# Altium footprint library DIP-CN  0607.PcbLib: 329 footprints (part 16 of 21)
Each footprint in its own frame and in the unit in brackets; x right, y up, seen from the top. Pads: shape width x height; smd on the part's side, far side on the other; paste and mask are expansions set on the pad; w line width, h text height; cw(c..) or ccw(c..) is an arc to the next point about the centre after c.
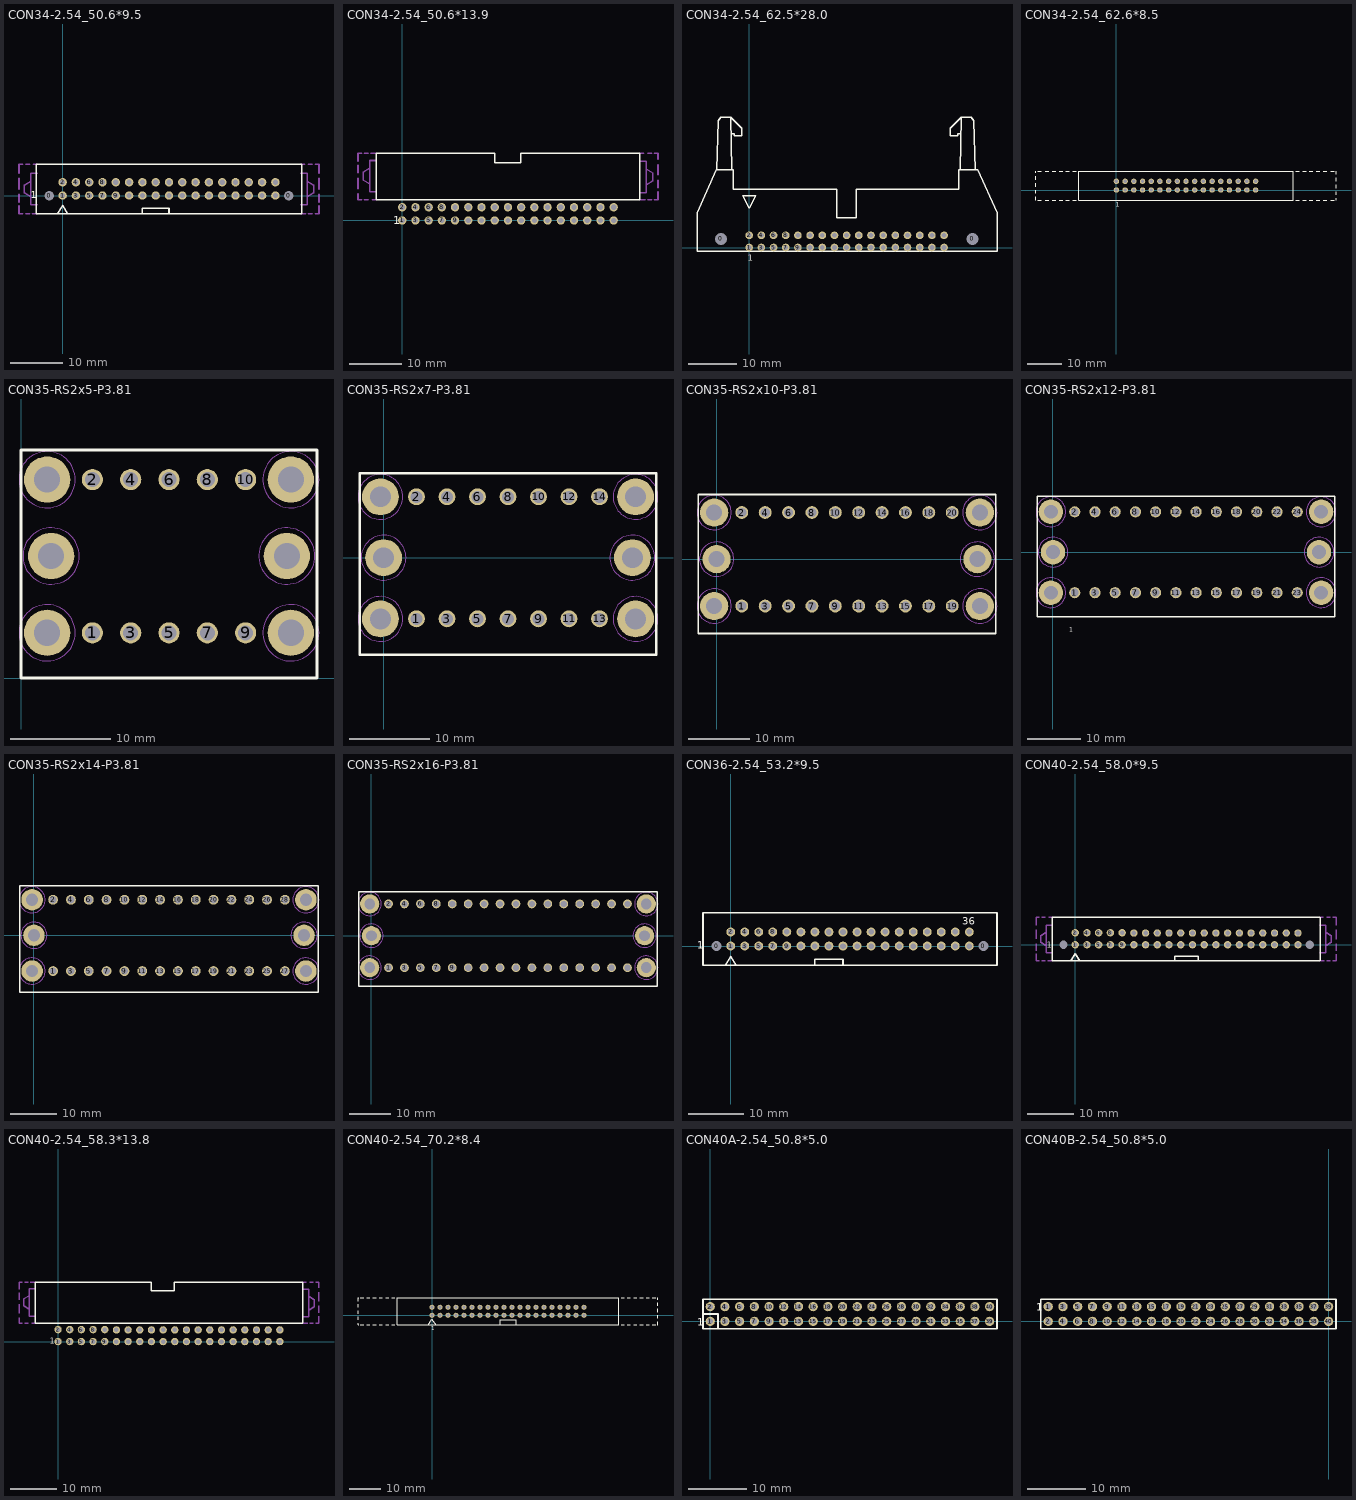
[diagram p15: the footprints below, top view; thin cyan lines are the x and y axes]

## CON34-2.54_50.6*9.5 [mm]
pads (36):
  round 1.5 hole 1.8 unplated: 0(-2.54,0) 0(43.18,0)
  round 1.6 hole 1: 1(0,0) 2(0,2.54) 3(2.54,0) 4(2.54,2.54) 5(5.08,0) 6(5.08,2.54) 7(7.62,0) 8(7.62,2.54) 9(10.16,0) 10(10.16,2.54) 11(12.7,0) 12(12.7,2.54) 13(15.24,0) 14(15.24,2.54) 15(17.779,-0.003) 16(17.779,2.537) 17(20.319,-0.003) 18(20.319,2.537) 19(22.859,-0.003) 20(22.859,2.537) 21(25.4,0) 22(25.4,2.54) 23(27.94,0) 24(27.94,2.54) 25(30.48,0) 26(30.48,2.54) 27(33.02,0) 28(33.02,2.54) 29(35.56,0) 30(35.56,2.54) 31(38.1,0) 32(38.1,2.54) 33(40.64,0) 34(40.64,2.54)
TopOverlay:
  lines w0.3: 15.2,-3.413 15.2,-2.413 20.32,-2.413 20.32,-3.413 ; -1,-3.5 0,-1.905 1,-3.5 ; -1,-3.5 1,-3.5 ; -1,-3.5 1,-3.5 ; -1,-3.5 1,-3.5 ; -5,-3.5 45.64,-3.5 45.64,6 -5,6 -5,-3.5
  text "1" at -6.096,-0.508 h1.3
BottomOverlay:
  lines w0.3: -1.016,1.27 41.656,1.27 ; 1.27,-0.829 1.27,3.616 ; 3.81,-0.829 3.81,3.616 ; 6.35,-0.829 6.35,3.616 ; 8.89,-0.829 8.89,3.616 ; 11.43,-0.829 11.43,3.616 ; 13.97,-0.829 13.97,3.616 ; 16.51,-0.829 16.51,3.616 ; 19.05,-0.829 19.05,3.616 ; 21.59,-0.889 21.59,3.556 ; 24.13,-0.829 24.13,3.616 ; 26.67,-0.889 26.67,3.556 ; 29.21,-0.889 29.21,3.556 ; 31.75,-0.889 31.75,3.556 ; 34.29,-0.889 34.29,3.556 ; 36.83,-0.889 36.83,3.556 ; 39.37,-0.889 39.37,3.556
Mechanical7:
  lines w0.3: -8.326,-2 -8.326,-3.5 -7.576,-3.5 ; -8.326,-1.25 -8.326,0.25 ; -8.326,1.25 -8.326,3.25 ; -8.326,4.25 -8.326,6 -7.576,6 ; -7.076,-3.5 -6.326,-3.5 ; -7.076,6 -6.326,6 ; -5.826,-3.5 -4.826,-3.5 ; -5.576,6 -4.826,6 ; -4.826,-1.75 -6.076,-1.75 -6.076,-0.25 ; -4.826,4.25 -6.076,4.25 -6.076,2.75 ; 45.466,-3.5 46.466,-3.5 ; 45.466,-1.75 46.716,-1.75 46.716,-0.25 ; 45.466,4.25 46.716,4.25 46.716,2.75 ; 45.466,6 46.216,6 ; 46.966,-3.5 47.716,-3.5 ; 46.966,6 47.716,6 ; 48.216,-3.5 48.966,-3.5 48.966,-2 ; 48.216,6 48.966,6 48.966,4.25 ; 48.966,-1.25 48.966,0.25 ; 48.966,1.25 48.966,3.25 ; -6.076,-0.25 -6.076,2.75 ; -6.076,-0.25 -7.326,0.5 -7.326,2 -6.076,2.75 ; 46.716,-0.25 46.716,2.75 ; 46.716,-0.25 47.966,0.5 47.966,2 46.716,2.75

## CON34-2.54_50.6*13.9 [mm]
pads (34):
  round 1.6 hole 1: 1(0,0) 2(0,2.54) 3(2.54,0) 4(2.54,2.54) 5(5.08,0) 6(5.08,2.54) 7(7.62,0) 8(7.62,2.54) 9(10.16,0) 10(10.16,2.54) 11(12.7,0) 12(12.7,2.54) 13(15.24,0) 14(15.24,2.54) 15(17.78,0) 16(17.78,2.54) 17(20.32,0) 18(20.32,2.54) 19(22.86,0) 20(22.86,2.54) 21(25.4,0) 22(25.4,2.54) 23(27.94,0) 24(27.94,2.54) 25(30.48,0) 26(30.48,2.54) 27(33.02,0) 28(33.02,2.54) 29(35.56,0) 30(35.56,2.54) 31(38.1,0) 32(38.1,2.54) 33(40.64,0) 34(40.64,2.54)
TopOverlay:
  lines w0.3: -5,4 -5,12.9 17.8,12.9 17.8,11.1 22.8,11.1 22.8,12.9 45.66,12.9 45.66,4 -5,4
  text "1" at -1.75,-0.75 h1.52
Mechanical7:
  lines w0.3: -8.5,5.15 -8.5,4 -7.75,4 ; -8.5,6.15 -8.5,8.15 ; -8.5,9.15 -8.5,10.65 ; -8.5,11.4 -8.5,12.9 -7.75,12.9 ; -7.25,4 -6.5,4 ; -7.25,12.9 -6.5,12.9 ; -6,12.9 -5,12.9 ; -5.75,4 -5,4 ; -5,5.531 -6.25,5.531 -6.25,7.031 ; -5,11.531 -6.25,11.531 -6.25,10.031 ; 45.66,4 46.66,4 ; 45.66,5.369 46.91,5.369 46.91,6.869 ; 45.66,11.369 46.91,11.369 46.91,9.869 ; 45.66,12.9 46.41,12.9 ; 47.16,4 47.91,4 ; 47.16,12.9 47.91,12.9 ; 48.41,4 49.16,4 49.16,5.5 ; 48.41,12.9 49.16,12.9 49.16,11.75 ; 49.16,6.25 49.16,7.75 ; 49.16,8.75 49.16,10.75 ; -6.25,7.031 -6.25,10.031 ; -6.25,7.031 -7.5,7.781 -7.5,9.281 -6.25,10.031 ; 46.91,6.869 46.91,9.869 ; 46.91,6.869 48.16,7.619 48.16,9.119 46.91,9.869

## CON34-2.54_62.5*28.0 [mm]
pads (36):
  round 1.6 hole 2.5 unplated: 0(-5.881,1.797) 0(46.534,1.797)
  round 1.6 hole 1: 1(0,0) 2(0,2.54) 3(2.54,0) 4(2.54,2.54) 5(5.08,0) 6(5.08,2.54) 7(7.62,0) 8(7.62,2.54) 9(10.16,0) 10(10.16,2.54) 11(12.7,0) 12(12.7,2.54) 13(15.24,0) 14(15.24,2.54) 15(17.779,-0.003) 16(17.779,2.537) 17(20.319,-0.003) 18(20.319,2.537) 19(22.859,-0.003) 20(22.859,2.537) 21(25.399,-0.003) 21(25.399,2.537) 23(27.939,-0.003) 24(27.939,2.537) 25(30.479,-0.003) 26(30.479,2.537) 27(33.019,-0.003) 28(33.019,2.537) 29(35.559,-0.003) 30(35.559,2.537) 31(38.099,-0.003) 32(38.099,2.537) 33(40.639,-0.003) 34(40.639,2.537)
TopOverlay:
  lines w0.3: -6.75,16.253 -6.45,26.393 -5.95,27.193 -3.85,27.193 ; -3.85,23.693 -3.15,23.693 -3.15,23.293 -1.55,23.293 -1.55,24.893 -3.85,27.193 ; -3.65,16.253 -3.85,27.193 ; 44.034,16.253 44.234,27.193 ; 44.234,23.693 43.534,23.693 43.534,23.293 41.934,23.293 41.934,24.893 44.234,27.193 ; 47.134,16.253 46.834,26.393 46.334,27.193 44.234,27.193 ; -10.881,-0.743 51.674,-0.753 51.674,7.247 47.624,16.253 43.687,16.253 43.687,12.189 22.351,12.189 22.351,6.22 18.287,6.22 18.287,12.189 -3.303,12.189 -3.303,16.253 -6.859,16.253 -10.881,7.257 -10.881,-0.743 ; -1.381,10.782 1.394,10.782 -0.031,8.232 -1.381,10.782
  text "1" at -0.254,-2.794 h1.3
BottomOverlay:
  lines w0.3: -1.016,1.27 41.529,1.27 ; 1.27,-0.829 1.27,3.616 ; 3.81,-0.829 3.81,3.616 ; 6.35,-0.829 6.35,3.616 ; 8.89,-0.829 8.89,3.616 ; 11.43,-0.829 11.43,3.616 ; 13.97,-0.829 13.97,3.616 ; 16.51,-0.829 16.51,3.616 ; 19.05,-0.829 19.05,3.616 ; 21.59,-0.889 21.59,3.556 ; 24.13,-0.829 24.13,3.616 ; 26.67,-0.889 26.67,3.556 ; 29.21,-0.889 29.21,3.556 ; 31.75,-0.889 31.75,3.556 ; 34.29,-0.889 34.29,3.556 ; 36.829,-0.892 36.829,3.553 ; 39.369,-0.892 39.369,3.553

## CON34-2.54_62.6*8.5 [mm]
pads (34):
  round 1.6 hole 1: 1(0,0) 2(0,2.54) 3(2.54,0) 4(2.54,2.54) 5(5.08,0) 6(5.08,2.54) 7(7.62,0) 8(7.62,2.54) 9(10.16,0) 10(10.16,2.54) 11(12.7,0) 12(12.7,2.54) 13(15.24,0) 14(15.24,2.54) 15(17.779,-0.003) 16(17.779,2.537) 17(20.319,-0.003) 18(20.319,2.537) 19(22.859,-0.003) 20(22.859,2.537) 21(25.4,0) 22(25.4,2.54) 23(27.94,0) 24(27.94,2.54) 25(30.48,0) 26(30.48,2.54) 27(33.02,0) 28(33.02,2.54) 29(35.56,0) 30(35.56,2.54) 31(38.1,0) 32(38.1,2.54) 33(40.64,0) 34(40.64,2.54)
TopOverlay:
  lines w0.3: -23.501,-3.003 -23.501,-2.003 ; -23.501,-1.003 -23.501,-0.003 ; -23.501,0.997 -23.501,1.997 ; -23.501,2.997 -23.501,3.997 ; -23.501,4.997 -23.501,5.497 ; -23.001,-3.003 -22.001,-3.003 ; -23.001,5.497 -22.001,5.497 ; -20.751,-3.003 -19.751,-3.003 ; -20.751,5.497 -19.751,5.497 ; -18.751,-3.003 -17.751,-3.003 ; -18.751,5.497 -17.751,5.497 ; -16.751,-3.003 -15.751,-3.003 ; -16.751,5.497 -15.751,5.497 ; -14.751,-3.003 -13.751,-3.003 ; -14.751,5.497 -13.751,5.497 ; -12.751,-3.003 -11.751,-3.003 ; -12.751,5.497 -11.751,5.497 ; -11.001,5.497 -11.001,-3.003 51.596,-3.003 ; -10.956,5.543 51.641,5.543 51.641,-2.957 ; 52.391,-2.957 53.391,-2.957 ; 52.391,5.543 53.391,5.543 ; 54.391,-2.957 55.391,-2.957 ; 54.391,5.543 55.391,5.543 ; 56.391,-2.957 57.391,-2.957 ; 56.391,5.543 57.391,5.543 ; 58.391,-2.957 59.391,-2.957 ; 58.391,5.543 59.391,5.543 ; 60.391,-2.957 61.391,-2.957 ; 60.391,5.543 61.391,5.543 ; 62.641,-2.957 63.641,-2.957 ; 62.641,5.543 63.641,5.543 ; 64.141,-2.957 64.141,-2.457 ; 64.141,-1.457 64.141,-0.457 ; 64.141,0.543 64.141,1.543 ; 64.141,2.543 64.141,3.543 ; 64.141,4.543 64.141,5.543
  text "1" at -0.254,-4.953 h1.3
BottomOverlay:
  lines w0.3: -1.016,1.27 41.656,1.27 ; 1.27,-0.829 1.27,3.616 ; 3.81,-0.829 3.81,3.616 ; 6.35,-0.829 6.35,3.616 ; 8.89,-0.829 8.89,3.616 ; 11.43,-0.829 11.43,3.616 ; 13.97,-0.829 13.97,3.616 ; 16.51,-0.829 16.51,3.616 ; 19.05,-0.829 19.05,3.616 ; 21.59,-0.889 21.59,3.556 ; 24.13,-0.829 24.13,3.616 ; 26.67,-0.889 26.67,3.556 ; 29.21,-0.889 29.21,3.556 ; 31.75,-0.889 31.75,3.556 ; 34.29,-0.889 34.29,3.556 ; 36.83,-0.889 36.83,3.556 ; 39.37,-0.889 39.37,3.556

## CON35-RS2x5-P3.81 [mm]
pads (16):
  round 2.1 hole 1.5: 1(7.1,4.51) 2(7.1,19.75) 3(10.91,4.51) 4(10.91,19.75) 5(14.72,4.51) 6(14.72,19.75) 7(18.53,4.51) 8(18.53,19.75) 9(22.34,4.51) 10(22.34,19.75)
  round 4.6 hole 2.6: ""(2.6,4.51) ""(2.6,19.75) ""(3,12.15) ""(26.44,12.15) ""(26.84,4.51) ""(26.84,19.75)
TopOverlay:
  lines w0.3: 0,22.7 29.44,22.7 29.44,0 0,0 0,22.71
Mechanical7:
  circle w0.1: c26.84,4.51 r2.8
  circle w0.1: c26.84,19.75 r2.8
  circle w0.1: c26.44,12.15 r2.8
  circle w0.1: c2.6,4.51 r2.8
  circle w0.1: c3,12.15 r2.8
  circle w0.1: c2.6,19.75 r2.8

## CON35-RS2x7-P3.81 [mm]
pads (20):
  round 2.1 hole 1.5: 1(4.1,-7.64) 2(4.1,7.6) 3(7.91,-7.64) 4(7.91,7.6) 5(11.72,-7.64) 6(11.72,7.6) 7(15.53,-7.64) 8(15.53,7.6) 9(19.34,-7.64) 10(19.34,7.6) 11(23.15,-7.64) 12(23.15,7.6) 13(26.96,-7.64) 14(26.96,7.6)
  round 4.6 hole 2.6: ""(-0.4,-7.64) ""(-0.4,7.6) ""(0,0) ""(31.06,0) ""(31.46,-7.64) ""(31.46,7.6)
TopOverlay:
  lines w0.3: -3,-12.14 34.06,-12.14 34.06,10.56 -3,10.56 -3,-12.14
Mechanical7:
  circle w0.1: c-0.4,7.6 r2.8
  circle w0.1: c0,0 r2.8
  circle w0.1: c-0.4,-7.64 r2.8
  circle w0.1: c31.06,0 r2.8
  circle w0.1: c31.46,7.6 r2.8
  circle w0.1: c31.46,-7.64 r2.8

## CON35-RS2x10-P3.81 [mm]
pads (26):
  round 2.1 hole 1.5: 1(4.1,-7.64) 2(4.1,7.6) 3(7.91,-7.64) 4(7.91,7.6) 5(11.72,-7.64) 6(11.72,7.6) 7(15.53,-7.64) 8(15.53,7.6) 9(19.34,-7.64) 10(19.34,7.6) 11(23.15,-7.64) 12(23.15,7.6) 13(26.96,-7.64) 14(26.96,7.6) 15(30.77,-7.64) 16(30.77,7.6) 17(34.58,-7.64) 18(34.58,7.6) 19(38.39,-7.64) 20(38.39,7.6)
  round 4.6 hole 2.6: ""(-0.4,-7.64) ""(-0.4,7.6) ""(0,0) ""(42.49,0) ""(42.89,-7.64) ""(42.89,7.6)
TopOverlay:
  lines w0.3: -3,-12.14 -3,10.56 45.49,10.56 45.49,-12.14 -3,-12.14
Mechanical7:
  circle w0.1: c42.89,-7.64 r2.8
  circle w0.1: c42.89,7.6 r2.8
  circle w0.1: c42.49,0 r2.8
  circle w0.1: c-0.4,-7.64 r2.8
  circle w0.1: c0,0 r2.8
  circle w0.1: c-0.4,7.6 r2.8

## CON35-RS2x12-P3.81 [mm]
pads (30):
  round 2.1 hole 1.5: 1(4.1,-7.64) 2(4.1,7.6) 3(7.91,-7.64) 4(7.91,7.6) 5(11.72,-7.64) 6(11.72,7.6) 7(15.53,-7.64) 8(15.53,7.6) 9(19.34,-7.64) 10(19.34,7.6) 11(23.15,-7.64) 12(23.15,7.6) 13(26.96,-7.64) 14(26.96,7.6) 15(30.77,-7.64) 16(30.77,7.6) 17(34.58,-7.64) 18(34.58,7.6) 19(38.39,-7.64) 20(38.39,7.6) 21(42.2,-7.64) 22(42.2,7.6) 23(46.01,-7.64) 24(46.01,7.6)
  round 4.6 hole 2.6: ""(-0.4,-7.64) ""(-0.4,7.6) ""(0,0) ""(50.11,0) ""(50.51,-7.64) ""(50.51,7.6)
TopOverlay:
  lines w0.3: -3,-12.14 -3,10.56 53.11,10.56 53.11,-12.14 -3,-12.14
  text "1" at 3.075,-15.025 h0.8
Mechanical7:
  circle w0.1: c50.51,-7.64 r2.8
  circle w0.1: c50.51,7.6 r2.8
  circle w0.1: c50.11,0 r2.8
  circle w0.1: c-0.4,-7.64 r2.8
  circle w0.1: c0,0 r2.8
  circle w0.1: c-0.4,7.6 r2.8

## CON35-RS2x14-P3.81 [mm]
pads (34):
  round 2.1 hole 1.5: 1(4.1,-7.64) 2(4.1,7.6) 3(7.91,-7.64) 4(7.91,7.6) 5(11.72,-7.64) 6(11.72,7.6) 7(15.53,-7.64) 8(15.53,7.6) 9(19.34,-7.64) 10(19.34,7.6) 11(23.15,-7.64) 12(23.15,7.6) 13(26.96,-7.64) 14(26.96,7.6) 15(30.77,-7.64) 16(30.77,7.6) 17(34.58,-7.64) 18(34.58,7.6) 19(38.39,-7.64) 20(38.39,7.6) 21(42.2,-7.64) 22(42.2,7.6) 23(46.01,-7.64) 24(46.01,7.6) 25(49.82,-7.64) 26(49.82,7.6) 27(53.63,-7.64) 28(53.63,7.6)
  round 4.6 hole 2.6: ""(-0.4,-7.64) ""(-0.4,7.6) ""(0,0) ""(57.73,0) ""(58.13,-7.64) ""(58.13,7.6)
TopOverlay:
  lines w0.3: -3,-12.14 60.73,-12.14 60.73,10.56 -3,10.56 -3,-12.14
Mechanical7:
  circle w0.1: c-0.4,7.6 r2.8
  circle w0.1: c0,0 r2.8
  circle w0.1: c-0.4,-7.64 r2.8
  circle w0.1: c57.73,0 r2.8
  circle w0.1: c58.13,7.6 r2.8
  circle w0.1: c58.13,-7.64 r2.8

## CON35-RS2x16-P3.81 [mm]
pads (38):
  round 2.1 hole 1.5: 1(4.1,-7.64) 2(4.1,7.6) 3(7.91,-7.64) 4(7.91,7.6) 5(11.72,-7.64) 6(11.72,7.6) 7(15.53,-7.64) 8(15.53,7.6) 9(19.34,-7.64) 10(19.34,7.6) 11(23.15,-7.64) 12(23.15,7.6) 13(26.96,-7.64) 14(26.96,7.6) 15(30.77,-7.64) 16(30.77,7.6) 17(34.58,-7.64) 18(34.58,7.6) 19(38.39,-7.64) 20(38.39,7.6) 21(42.2,-7.64) 22(42.2,7.6) 23(46.01,-7.64) 24(46.01,7.6) 25(49.82,-7.64) 26(49.82,7.6) 27(53.63,-7.64) 28(53.63,7.6) 29(57.44,-7.64) 30(57.44,7.6) 31(61.25,-7.64) 32(61.25,7.6)
  round 4.6 hole 2.6: ""(-0.4,-7.64) ""(-0.4,7.6) ""(0,0) ""(65.35,0) ""(65.75,-7.64) ""(65.75,7.6)
TopOverlay:
  lines w0.3: -3,-12.14 -3,10.56 68.35,10.56 68.35,-12.14 -3,-12.14
Mechanical7:
  circle w0.1: c65.75,-7.64 r2.8
  circle w0.1: c65.75,7.6 r2.8
  circle w0.1: c65.35,0 r2.8
  circle w0.1: c-0.4,-7.64 r2.8
  circle w0.1: c0,0 r2.8
  circle w0.1: c-0.4,7.6 r2.8

## CON36-2.54_53.2*9.5 [mm]
pads (38):
  round 1.5 hole 1.8 unplated: 0(-2.54,0) 0(45.72,0)
  round 1.6 hole 1: 1(0,0) 2(0,2.54) 3(2.54,0) 4(2.54,2.54) 5(5.08,0) 6(5.08,2.54) 7(7.62,0) 8(7.62,2.54) 9(10.16,0) 10(10.16,2.54) 11(12.7,0) 12(12.7,2.54) 13(15.24,0) 14(15.24,2.54) 15(17.779,-0.003) 16(17.779,2.537) 17(20.319,-0.003) 18(20.319,2.537) 19(22.859,-0.003) 20(22.859,2.537) 21(25.4,0) 22(25.4,2.54) 23(27.94,0) 24(27.94,2.54) 25(30.48,0) 26(30.48,2.54) 27(33.02,0) 28(33.02,2.54) 29(35.56,0) 30(35.56,2.54) 31(38.1,0) 32(38.1,2.54) 33(40.64,0) 34(40.64,2.54) 35(43.18,0) 36(43.18,2.54)
TopOverlay:
  lines w0.3: 15.2,-3.413 15.2,-2.413 20.32,-2.413 20.32,-3.413 ; -1,-3.5 1,-3.5 ; -1,-3.5 1,-3.5 ; -1,-3.5 1,-3.5 ; -1,-3.5 0,-1.905 1,-3.5 ; -5,-3.5 -5,6 48.18,6.04 48.18,-3.46 -5,-3.5
  text "36" at 41.91,3.81 h1.3
  text "1" at -6.096,-0.508 h1.3
BottomOverlay:
  lines w0.3: -1.016,1.27 44.45,1.27 ; 1.27,-0.829 1.27,3.616 ; 3.81,-0.829 3.81,3.616 ; 6.35,-0.829 6.35,3.616 ; 8.89,-0.829 8.89,3.616 ; 11.43,-0.829 11.43,3.616 ; 13.97,-0.829 13.97,3.616 ; 16.51,-0.829 16.51,3.616 ; 19.05,-0.829 19.05,3.616 ; 21.59,-0.889 21.59,3.556 ; 24.13,-0.829 24.13,3.616 ; 26.67,-0.889 26.67,3.556 ; 29.21,-0.889 29.21,3.556 ; 31.75,-0.889 31.75,3.556 ; 34.29,-0.889 34.29,3.556 ; 36.83,-0.889 36.83,3.556 ; 39.37,-0.889 39.37,3.556 ; 41.91,-0.889 41.91,3.556

## CON40-2.54_58.0*9.5 [mm]
pads (42):
  round 1.5 hole 1.8 unplated: 0(-2.54,0) 0(50.8,0)
  round 1.6 hole 1: 1(0,0) 2(0,2.6) 3(2.54,0) 4(2.54,2.6) 5(5.08,0) 6(5.08,2.6) 7(7.62,0) 8(7.62,2.6) 9(10.16,0) 10(10.16,2.6) 11(12.7,0) 12(12.7,2.54) 13(15.24,0) 14(15.24,2.54) 15(17.78,0) 16(17.78,2.54) 17(20.32,0) 18(20.32,2.54) 19(22.86,0) 20(22.86,2.54) 21(25.4,0) 22(25.4,2.54) 23(27.94,0) 24(27.94,2.54) 25(30.48,0) 26(30.48,2.54) 27(33.02,0) 28(33.02,2.54) 29(35.56,0) 30(35.56,2.54) 31(38.1,0) 32(38.1,2.54) 33(40.64,0) 34(40.64,2.54) 35(43.18,0) 36(43.18,2.54) 37(45.72,0) 38(45.72,2.54) 39(48.26,0) 40(48.26,2.54)
TopOverlay:
  lines w0.3: -1,-3.5 0,-1.905 1,-3.5 ; 21.57,-3.5 21.57,-2.5 26.69,-2.5 26.69,-3.5 ; 53,-3.5 -5,-3.5 -5,6 53,6 ; 53.086,-3.5 53.086,6
  text "1" at -6.223,-0.635 h1.3
Mechanical7:
  lines w0.3: -8.5,-2 -8.5,-3.5 -7.75,-3.5 ; -8.5,-1.25 -8.5,0.25 ; -8.5,1.25 -8.5,3.25 ; -8.5,4.25 -8.5,6 -7.75,6 ; -7.25,-3.5 -6.5,-3.5 ; -7.25,6 -6.5,6 ; -6,-3.5 -5,-3.5 ; -5.75,6 -5,6 ; -5,-1.75 -6.25,-1.75 -6.25,-0.25 ; -5,4.25 -6.25,4.25 -6.25,2.75 ; 53,-3.5 54,-3.5 ; 53,-1.75 54.25,-1.75 54.25,-0.25 ; 53,4.25 54.25,4.25 54.25,2.75 ; 53,6 53.75,6 ; 54.5,-3.5 55.25,-3.5 ; 54.5,6 55.25,6 ; 55.75,-3.5 56.5,-3.5 56.5,-2 ; 55.75,6 56.5,6 56.5,4.25 ; 56.5,-1.25 56.5,0.25 ; 56.5,1.25 56.5,3.25 ; -6.25,-0.25 -6.25,2.75 ; -6.25,-0.25 -7.5,0.5 -7.5,2 -6.25,2.75 ; 54.25,-0.25 54.25,2.75 ; 54.25,-0.25 55.5,0.5 55.5,2 54.25,2.75

## CON40-2.54_58.3*13.8 [mm]
pads (40):
  round 1.6 hole 1: 1(0,0) 2(0,2.6) 3(2.54,0) 4(2.54,2.6) 5(5.08,0) 6(5.08,2.6) 7(7.62,0) 8(7.62,2.6) 9(10.16,0) 10(10.16,2.6) 11(12.7,0) 12(12.7,2.54) 13(15.24,0) 14(15.24,2.54) 15(17.78,0) 16(17.78,2.54) 17(20.32,0) 18(20.32,2.54) 19(22.86,0) 20(22.86,2.54) 21(25.4,0) 22(25.4,2.54) 23(27.94,0) 24(27.94,2.54) 25(30.48,0) 26(30.48,2.54) 27(33.02,0) 28(33.02,2.54) 29(35.56,0) 30(35.56,2.54) 31(38.1,0) 32(38.1,2.54) 33(40.64,0) 34(40.64,2.54) 35(43.18,0) 36(43.18,2.54) 37(45.72,0) 38(45.72,2.54) 39(48.26,0) 40(48.26,2.54)
TopOverlay:
  lines w0.3: -5,4 53.28,4 53.28,12.9 25.3,12.9 25.3,11.1 20.3,11.1 20.3,12.9 -5,12.9 -5,4
  text "1" at -1.778,-0.508 h1.3
BottomOverlay:
  lines w0.3: -1.016,1.27 48.895,1.27 ; 1.27,-0.829 1.27,3.616 ; 3.81,-0.829 3.81,3.616 ; 6.35,-0.829 6.35,3.616 ; 8.89,-0.829 8.89,3.616 ; 11.43,-0.829 11.43,3.616 ; 13.97,-0.829 13.97,3.616 ; 16.51,-0.829 16.51,3.616 ; 19.05,-0.829 19.05,3.616 ; 21.59,-0.889 21.59,3.556 ; 24.13,-0.829 24.13,3.616 ; 26.67,-0.889 26.67,3.556 ; 29.21,-0.889 29.21,3.556 ; 31.75,-0.889 31.75,3.556 ; 34.29,-0.889 34.29,3.556 ; 36.83,-0.889 36.83,3.556 ; 39.37,-0.889 39.37,3.556 ; 41.91,-0.889 41.91,3.556 ; 44.45,-0.889 44.45,3.556 ; 46.99,-0.889 46.99,3.556
Mechanical7:
  lines w0.3: -8.5,5.15 -8.5,4 -7.75,4 ; -8.5,6.15 -8.5,8.15 ; -8.5,9.15 -8.5,10.65 ; -8.5,11.4 -8.5,12.9 -7.75,12.9 ; -7.25,4 -6.5,4 ; -7.25,12.9 -6.5,12.9 ; -6,12.9 -5,12.9 ; -5.75,4 -5,4 ; -5,5.531 -6.25,5.531 -6.25,7.031 ; -5,11.531 -6.25,11.531 -6.25,10.031 ; 53.28,4 54.28,4 ; 53.28,5.369 54.53,5.369 54.53,6.869 ; 53.28,11.369 54.53,11.369 54.53,9.869 ; 53.28,12.9 54.03,12.9 ; 54.78,4 55.53,4 ; 54.78,12.9 55.53,12.9 ; 56.03,4 56.78,4 56.78,5.5 ; 56.03,12.9 56.78,12.9 56.78,11.75 ; 56.78,6.25 56.78,7.75 ; 56.78,8.75 56.78,10.75 ; -6.25,7.031 -7.5,7.781 -7.5,9.281 -6.25,10.031 ; -6.25,7.031 -6.25,10.031 ; 54.53,6.869 55.78,7.619 55.78,9.119 54.53,9.869 ; 54.53,6.869 54.53,9.869

## CON40-2.54_70.2*8.4 [mm]
pads (40):
  round 1.6 hole 1: 1(0,0) 2(0,2.54) 3(2.54,0) 4(2.54,2.54) 5(5.08,0) 6(5.08,2.54) 7(7.62,0) 8(7.62,2.54) 9(10.16,0) 10(10.16,2.54) 11(12.7,0) 12(12.7,2.54) 13(15.24,0) 14(15.24,2.54) 15(17.779,-0.003) 16(17.779,2.537) 17(20.319,-0.003) 18(20.319,2.537) 19(22.859,-0.003) 20(22.859,2.537) 21(25.4,0) 22(25.4,2.54) 23(27.94,0) 24(27.94,2.54) 25(30.48,0) 26(30.48,2.54) 27(33.02,0) 28(33.02,2.54) 29(35.56,0) 30(35.56,2.54) 31(38.1,0) 32(38.1,2.54) 33(40.64,0) 34(40.64,2.54) 35(43.179,-0.003) 36(43.179,2.537) 37(45.719,-0.003) 38(45.719,2.537) 39(48.259,-0.003) 40(48.259,2.537)
TopOverlay:
  lines w0.3: -23.501,-2.503 -23.501,-3.003 -23.251,-3.003 ; -23.501,-1.503 -23.501,-0.503 ; -23.501,0.497 -23.501,1.497 ; -23.501,2.497 -23.501,3.497 ; -23.501,4.497 -23.501,5.497 -23.251,5.497 ; -22.751,-3.003 -21.751,-3.003 ; -22.751,5.497 -21.751,5.497 ; -20.751,-3.003 -19.751,-3.003 ; -20.751,5.497 -19.751,5.497 ; -18.751,-3.003 -17.751,-3.003 ; -18.751,5.497 -17.751,5.497 ; -16.751,-3.003 -15.751,-3.003 ; -16.751,5.497 -15.751,5.497 ; -14.751,-3.003 -13.751,-3.003 ; -14.751,5.497 -13.751,5.497 ; -12.751,-3.003 -11.751,-3.003 ; -12.751,5.497 -11.751,5.497 ; -1.271,-3.051 -0.001,-1.273 1.269,-3.051 ; 21.699,-3.003 21.699,-1.503 26.699,-1.503 26.699,-3.003 ; 59.258,-2.997 -11.001,-3.003 -11.001,5.497 59.258,5.486 ; 59.269,-3.005 59.269,5.495 ; 60.019,-3.005 61.019,-3.005 ; 60.019,5.495 61.019,5.495 ; 62.019,-3.005 63.019,-3.005 ; 62.019,5.495 63.019,5.495 ; 64.019,-3.005 65.019,-3.005 ; 64.019,5.495 65.019,5.495 ; 66.019,-3.005 67.019,-3.005 ; 66.019,5.495 67.019,5.495 ; 68.019,-3.005 69.019,-3.005 ; 68.019,5.495 69.019,5.495 ; 70.019,-3.005 71.019,-3.005 ; 70.019,5.495 71.019,5.495 ; 71.519,-3.005 71.769,-3.005 71.769,-2.005 ; 71.519,5.495 71.769,5.495 71.769,4.995 ; 71.769,-1.005 71.769,-0.005 ; 71.769,0.995 71.769,1.995 ; 71.769,2.995 71.769,3.995
  text "1" at -0.254,-4.699 h1.3

## CON40A-2.54_50.8*5.0 [mm]
pads (40):
  round 1.6 hole 1: 1(0,0) 2(0,2.54) 3(2.54,0) 4(2.54,2.54) 5(5.08,0) 6(5.08,2.54) 7(7.62,0) 8(7.62,2.54) 9(10.16,0) 10(10.16,2.54) 11(12.7,0) 12(12.7,2.54) 13(15.24,0) 14(15.24,2.54) 15(17.78,0) 16(17.78,2.54) 17(20.32,0) 18(20.32,2.54) 19(22.86,0) 20(22.86,2.54) 21(25.4,0) 22(25.4,2.54) 23(27.94,0) 24(27.94,2.54) 25(30.48,0) 26(30.48,2.54) 27(33.02,0) 28(33.02,2.54) 29(35.56,0) 30(35.56,2.54) 31(38.1,0) 32(38.1,2.54) 33(40.64,0) 34(40.64,2.54) 35(43.18,0) 36(43.18,2.54) 37(45.72,0) 38(45.72,2.54) 39(48.26,0) 40(48.26,2.54)
TopOverlay:
  lines w0.3: -1.27,1.25 1.15,1.25 1.35,1.25 1.35,-1.245 1.375,-1.27 ; -1.27,-1.27 -1.27,3.81 49.53,3.81 49.53,-1.27 -1.27,-1.27
  text "1" at -2.286,-0.762 h1.3

## CON40B-2.54_50.8*5.0 [mm]
pads (40):
  round 1.6 hole 1: 1(-48.259,2.543) 2(-48.259,0) 3(-45.719,2.543) 4(-45.719,0) 5(-43.179,2.543) 6(-43.179,0) 7(-40.639,2.543) 8(-40.639,0) 9(-38.099,2.543) 10(-38.099,0) 11(-35.559,2.543) 12(-35.559,0) 13(-33.019,2.543) 14(-33.019,0) 15(-30.48,2.543) 16(-30.48,0) 17(-27.94,2.543) 18(-27.94,0) 19(-25.4,2.543) 20(-25.4,0) 21(-22.859,2.543) 22(-22.859,0) 23(-20.319,2.543) 24(-20.319,0) 25(-17.779,2.543) 26(-17.779,0) 27(-15.239,2.543) 28(-15.239,0) 29(-12.699,2.543) 30(-12.699,0) 31(-10.159,2.543) 32(-10.159,0) 33(-7.619,2.543) 34(-7.619,0) 35(-5.08,2.543) 36(-5.08,0) 37(-2.54,2.543) 38(-2.54,0) 39(0,2.543) 40(0,0)
TopOverlay:
  lines w0.3: -49.529,-1.267 -49.529,3.813 1.271,3.813 1.271,-1.267 -49.529,-1.267
  text "1" at -50.359,1.803 h1.3
BottomOverlay:
  lines w0.3: -49.275,1.273 0.89,1.273 ; -46.989,-0.826 -46.989,3.619 ; -44.449,-0.826 -44.449,3.619 ; -41.909,-0.826 -41.909,3.619 ; -39.369,-0.826 -39.369,3.619 ; -36.829,-0.826 -36.829,3.619 ; -34.289,-0.826 -34.289,3.619 ; -31.749,-0.826 -31.749,3.619 ; -29.209,-0.826 -29.209,3.619 ; -26.669,-0.886 -26.669,3.559 ; -24.129,-0.826 -24.129,3.619 ; -21.589,-0.886 -21.589,3.559 ; -19.049,-0.886 -19.049,3.559 ; -16.509,-0.886 -16.509,3.559 ; -13.969,-0.886 -13.969,3.559 ; -11.429,-0.886 -11.429,3.559 ; -8.889,-0.886 -8.889,3.559 ; -6.349,-0.886 -6.349,3.559 ; -3.81,-0.889 -3.81,3.556 ; -1.27,-0.889 -1.27,3.556